# Altium integrated library MACH_BAO_CHAY.IntLib: 4 symbols
Pins are listed as number, name and electrical type; pins without a type are passive.

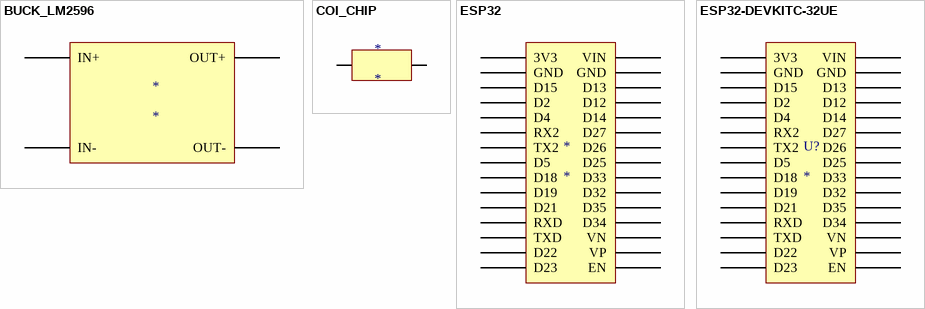
[diagram p0: symbols BUCK_LM2596 to ESP32-DEVKITC-32UE]

## BUCK_LM2596
designator *
footprint DIP4
pins: 1 IN+, 2 IN-, 3 OUT-, 4 OUT+

## COI_CHIP
designator *
footprint COI_CHIP - duplicate
pins: 1 5, 2 6

## ESP32
designator *
footprint ESP32
pins: 1 3V3, 2 GND, 3 D15, 4 D2, 5 D4, 6 RX2, 7 TX2, 8 D5, 9 D18, 10 D19, 11 D21, 12 RXD, 13 TXD, 14 D22, 15 D23, 16 EN, 17 VP, 18 VN, 19 D34, 20 D35, 21 D32, 22 D33, 23 D25, 24 D26, 25 D27, 26 D14, 27 D12, 28 D13, 29 GND, 30 VIN

## ESP32-DEVKITC-32UE
designator U?
ESP32-WROOM-32UE series Transceiver; 802.11 b/g/n (Wi-Fi, WiFi, WLAN), BluetoothÂ® Smart Ready 4.x Dual Mode Evaluation Board; MP: ESP32-DEVKITC-32UE; MF: Espressif Systems; Package: None; Price: None; Availability: In Stock; Value: *; Check_prices: https://www.snapeda.com/parts/ESP32-DEVKITC-32UE/Espressif+Systems/view-part/?ref=eda; Purchase-URL: https://pricing.snapeda.com/search/part/ESP32-DEVKITC-32UE/?ref=eda; SnapEDA_Link: https://www.snapeda.com/parts/ESP32-DEVKITC-32UE/Espressif+Systems/view-part/?ref=snap
footprint ESP32
pins: 1 3V3, 2 GND, 3 D15, 4 D2, 5 D4, 6 RX2, 7 TX2, 8 D5, 9 D18, 10 D19, 11 D21, 12 RXD, 13 TXD, 14 D22, 15 D23, 16 EN, 17 VP, 18 VN, 19 D34, 20 D35, 21 D32, 22 D33, 23 D25, 24 D26, 25 D27, 26 D14, 27 D12, 28 D13, 29 GND, 30 VIN